# Altium integrated library Capacitor - Aluminium Polymer.IntLib: 273 symbols (part 1 of 4)
Pins are listed as number, name and electrical type; pins without a type are passive.

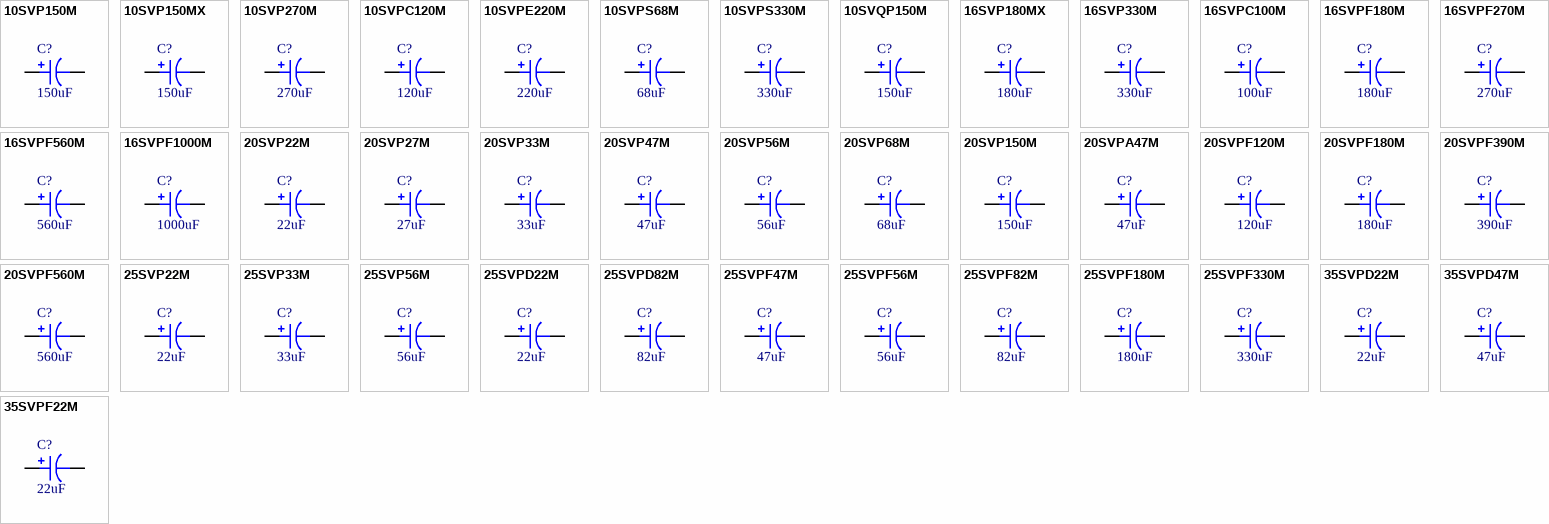
[diagram p0: symbols 10SVP150M to 35SVPF22M]

## 10SVP150M
designator C?, comment 150uF
CAP POLYMER 150UF 20% 10V SMD; Part Number: 10SVP150M; Manufacturer: Panasonic Electronic Components; TemperatureRange: -55C ~ 105C; Ripple Current: 3.02A; Lifetime @ Temp: 2000 Hrs @ 105C; Value: 150uF; PartId: 7668; Supplier 1: Digi-Key; Supplier Part Number 1: P16429TR-ND; ComponentLink1Description: Datasheet; ComponentLink1URL: http://industrial.panasonic.com/www-cgi/jvcr13pz.cgi?E+CI+4+AAB8008+10SVP150M+8+WW; ComponentLink2Description: Digi-Key listing; ComponentLink2URL: http://digikey.com/product-detail/en/10SVP150M/P16429TR-ND/4204761; Tolerance: 20%; Voltage: 10V; Price: 0.9215; Type: -; Device Package: Radial, Can - SMD; Impedance: -
footprint CAP ALUM 10.3MM
pins: 1, 2

## 10SVP150MX
designator C?, comment 150uF
CAP POLYMER 150UF 20% 10V SMD; Part Number: 10SVP150MX; Manufacturer: Panasonic Electronic Components; TemperatureRange: -55C ~ 105C; Ripple Current: 2.56A; Lifetime @ Temp: 2000 Hrs @ 105C; Value: 150uF; PartId: 7566; Supplier 1: Digi-Key; Supplier Part Number 1: P16430TR-ND; ComponentLink1Description: Datasheet; ComponentLink1URL: http://industrial.panasonic.com/www-cgi/jvcr13pz.cgi?E+CI+4+AAB8008+10SVP150MX+8+WW; ComponentLink2Description: Digi-Key listing; ComponentLink2URL: http://digikey.com/product-detail/en/10SVP150MX/P16430TR-ND/4204762; Tolerance: 20%; Voltage: 10V; Price: 0.7057; Type: -; Device Package: Radial, Can - SMD; Impedance: -
footprint CAP ALUM 8.3MM
pins: 1, 2

## 10SVP270M
designator C?, comment 270uF
CAP POLYMER 270UF 20% 10V SMD; Part Number: 10SVP270M; Manufacturer: Panasonic Electronic Components; TemperatureRange: -55C ~ 105C; Ripple Current: 3.7A; Lifetime @ Temp: 2000 Hrs @ 105C; Value: 270uF; PartId: 7669; Supplier 1: Digi-Key; Supplier Part Number 1: P16432TR-ND; ComponentLink1Description: Datasheet; ComponentLink1URL: http://industrial.panasonic.com/www-cgi/jvcr13pz.cgi?E+CI+4+AAB8008+10SVP270M+8+WW; ComponentLink2Description: Digi-Key listing; ComponentLink2URL: http://digikey.com/product-detail/en/10SVP270M/P16432TR-ND/4204764; Tolerance: 20%; Voltage: 10V; Price: 0.9322; Type: -; Device Package: Radial, Can - SMD; Impedance: -
footprint CAP ALUM 10.3MM
pins: 1, 2

## 10SVPC120M
designator C?, comment 120uF
CAP POLYMER 120UF 20% 10V SMD; Part Number: 10SVPC120M; Manufacturer: Panasonic Electronic Components; TemperatureRange: -55C ~ 105C; Ripple Current: 2.32A; Lifetime @ Temp: 2000 Hrs @ 105C; Value: 120uF; PartId: 7485; Supplier 1: Digi-Key; Supplier Part Number 1: P16440TR-ND; ComponentLink1Description: Datasheet; ComponentLink1URL: http://industrial.panasonic.com/www-cgi/jvcr13pz.cgi?E+CI+4+AAB8004+10SVPC120M+8+WW; ComponentLink2Description: Digi-Key listing; ComponentLink2URL: http://digikey.com/product-detail/en/10SVPC120M/P16440TR-ND/4204772; Tolerance: 20%; Voltage: 10V; Price: 0.4169; Type: -; Device Package: Radial, Can - SMD; Impedance: -
footprint CAP ALUM 6.6MM
pins: 1, 2

## 10SVPE220M
designator C?, comment 220uF
CAP POLYMER 220UF 20% 10V SMD; Part Number: 10SVPE220M; Manufacturer: Panasonic Electronic Components; TemperatureRange: -55C ~ 105C; Ripple Current: 2.7A; Lifetime @ Temp: 2000 Hrs @ 105C; Value: 220uF; PartId: 7554; Supplier 1: Digi-Key; Supplier Part Number 1: P16445TR-ND; ComponentLink1Description: Datasheet; ComponentLink1URL: http://industrial.panasonic.com/www-cgi/jvcr13pz.cgi?E+CI+4+AAB8002+10SVPE220M+8+WW; ComponentLink2Description: Digi-Key listing; ComponentLink2URL: http://digikey.com/product-detail/en/10SVPE220M/P16445TR-ND/4204777; Tolerance: 20%; Voltage: 10V; Price: 1.1084; Type: -; Device Package: Radial, Can - SMD; Impedance: -
footprint CAP ALUM 6.6MM
pins: 1, 2

## 10SVPS68M
designator C?, comment 68uF
CAP POLYMER 68UF 20% 10V SMD; Part Number: 10SVPS68M; Manufacturer: Panasonic Electronic Components; TemperatureRange: -55C ~ 105C; Type: General Purpose; Ripple Current: 2.2A; Lifetime @ Temp: 5000 Hrs @ 105C; Value: 68uF; PartId: 7530; Supplier 1: Digi-Key; Supplier Part Number 1: PCE5083TR-ND; ComponentLink1Description: Datasheet; ComponentLink1URL: http://media.digikey.com/pdf/Data%20Sheets/Panasonic%20Capacitors%20PDFs/SVPS_Series.pdf; ComponentLink2Description: Digi-Key listing; ComponentLink2URL: http://digikey.com/product-detail/en/10SVPS68M/PCE5083TR-ND/4833029; Tolerance: 20%; Voltage: 10V; Price: 0.7195; Device Package: Radial, Can - SMD; Impedance: -
footprint CAP ALUM 6.6MM
pins: 1, 2

## 10SVPS330M
designator C?, comment 330uF
CAP POLYMER 330UF 20% 10V SMD; Part Number: 10SVPS330M; Manufacturer: Panasonic Electronic Components; TemperatureRange: -55C ~ 105C; Type: General Purpose; Ripple Current: 3.77A; Lifetime @ Temp: 5000 Hrs @ 105C; Value: 330uF; PartId: 7673; Supplier 1: Digi-Key; Supplier Part Number 1: PCE5082TR-ND; ComponentLink1Description: Datasheet; ComponentLink1URL: http://media.digikey.com/pdf/Data%20Sheets/Panasonic%20Capacitors%20PDFs/SVPS_Series.pdf; ComponentLink2Description: Digi-Key listing; ComponentLink2URL: http://digikey.com/product-detail/en/10SVPS330M/PCE5082TR-ND/4833028; Tolerance: 20%; Voltage: 10V; Price: 0.9786; Device Package: Radial, Can - SMD; Impedance: -
footprint CAP ALUM 10.3MM
pins: 1, 2

## 10SVQP150M
designator C?, comment 150uF
CAP POLYMER 150UF 20% 10V SMD; Part Number: 10SVQP150M; Manufacturer: Panasonic Electronic Components; TemperatureRange: -55C ~ 125C; Type: General Purpose; Ripple Current: 2.56A; Lifetime @ Temp: 1000 Hrs @ 125C; Value: 150uF; PartId: 7600; Supplier 1: Digi-Key; Supplier Part Number 1: PCE5088TR-ND; ComponentLink1Description: Datasheet; ComponentLink1URL: http://media.digikey.com/pdf/Data%20Sheets/Panasonic%20Capacitors%20PDFs/SVQP_Series.pdf; ComponentLink2Description: Digi-Key listing; ComponentLink2URL: http://digikey.com/product-detail/en/10SVQP150M/PCE5088TR-ND/4833034; Tolerance: 20%; Voltage: 10V; Price: 0.9788; Device Package: Radial, Can - SMD; Impedance: -
footprint CAP ALUM 8.3MM
pins: 1, 2

## 16SVP180MX
designator C?, comment 180uF
CAP POLYMER 180UF 20% 16V SMD; Part Number: 16SVP180MX; Manufacturer: Panasonic Electronic Components; TemperatureRange: -55C ~ 105C; Ripple Current: 3.02A; Lifetime @ Temp: 2000 Hrs @ 105C; Value: 180uF; PartId: 7654; Supplier 1: Digi-Key; Supplier Part Number 1: P16461TR-ND; ComponentLink1Description: Datasheet; ComponentLink1URL: http://industrial.panasonic.com/www-cgi/jvcr13pz.cgi?E+CI+4+AAB8008+16SVP180MX+8+WW; ComponentLink2Description: Digi-Key listing; ComponentLink2URL: http://digikey.com/product-detail/en/16SVP180MX/P16461TR-ND/4204793; Tolerance: 20%; Voltage: 16V; Price: 0.4938; Type: -; Device Package: Radial, Can - SMD; Impedance: -
footprint CAP ALUM 10.3MM
pins: 1, 2

## 16SVP330M
designator C?, comment 330uF
CAP POLYMER 330UF 20% 16V SMD; Part Number: 16SVP330M; Manufacturer: Panasonic Electronic Components; TemperatureRange: -55C ~ 105C; Ripple Current: 4.72A; Lifetime @ Temp: 2000 Hrs @ 105C; Value: 330uF; PartId: 7659; Supplier 1: Digi-Key; Supplier Part Number 1: P16463TR-ND; ComponentLink1Description: Datasheet; ComponentLink1URL: http://industrial.panasonic.com/www-cgi/jvcr13pz.cgi?E+CI+4+AAB8008+16SVP330M+8+WW; ComponentLink2Description: Digi-Key listing; ComponentLink2URL: http://digikey.com/product-detail/en/16SVP330M/P16463TR-ND/4204795; Tolerance: 20%; Voltage: 16V; Price: 0.7395; Type: -; Device Package: Radial, Can - SMD; Impedance: -
footprint CAP ALUM 10.3MM
pins: 1, 2

## 16SVPC100M
designator C?, comment 100uF
CAP POLYMER 100UF 20% 16V SMD; Part Number: 16SVPC100M; Manufacturer: Panasonic Electronic Components; TemperatureRange: -55C ~ 105C; Ripple Current: 2.49A; Lifetime @ Temp: 2000 Hrs @ 105C; Value: 100uF; PartId: 7484; Supplier 1: Digi-Key; Supplier Part Number 1: P16468TR-ND; ComponentLink1Description: Datasheet; ComponentLink1URL: http://industrial.panasonic.com/www-cgi/jvcr13pz.cgi?E+CI+4+AAB8004+16SVPC100M+8+WW; ComponentLink2Description: Digi-Key listing; ComponentLink2URL: http://digikey.com/product-detail/en/16SVPC100M/P16468TR-ND/4204800; Tolerance: 20%; Voltage: 16V; Price: 0.4169; Type: -; Device Package: Radial, Can - SMD; Impedance: -
footprint CAP ALUM 6.6MM
pins: 1, 2

## 16SVPF180M
designator C?, comment 180uF
CAP POLYMER 180UF 20% 16V SMD; Part Number: 16SVPF180M; Manufacturer: Panasonic Electronic Components; TemperatureRange: -55C ~ 105C; Ripple Current: 3.3A; Lifetime @ Temp: 5000 Hrs @ 105C; Value: 180uF; PartId: 7515; Supplier 1: Digi-Key; Supplier Part Number 1: P16479TR-ND; ComponentLink1Description: Datasheet; ComponentLink1URL: http://industrial.panasonic.com/www-cgi/jvcr13pz.cgi?E+CI+4+AAB8001+16SVPF180M+8+WW; ComponentLink2Description: Digi-Key listing; ComponentLink2URL: http://digikey.com/product-detail/en/16SVPF180M/P16479TR-ND/4204811; Tolerance: 20%; Voltage: 16V; Price: 0.6186; Type: -; Device Package: Radial, Can - SMD; Impedance: -
footprint CAP ALUM 6.6MM
pins: 1, 2

## 16SVPF270M
designator C?, comment 270uF
CAP POLYMER 270UF 20% 16V SMD; Part Number: 16SVPF270M; Manufacturer: Panasonic Electronic Components; TemperatureRange: -55C ~ 105C; Ripple Current: 3.3A; Lifetime @ Temp: 5000 Hrs @ 105C; Value: 270uF; PartId: 7571; Supplier 1: Digi-Key; Supplier Part Number 1: P16480TR-ND; ComponentLink1Description: Datasheet; ComponentLink1URL: http://industrial.panasonic.com/www-cgi/jvcr13pz.cgi?E+CI+4+AAB8001+16SVPF270M+8+WW; ComponentLink2Description: Digi-Key listing; ComponentLink2URL: http://digikey.com/product-detail/en/16SVPF270M/P16480TR-ND/4204812; Tolerance: 20%; Voltage: 16V; Price: 0.7212; Type: -; Device Package: Radial, Can - SMD; Impedance: -
footprint CAP ALUM 8.3MM
pins: 1, 2

## 16SVPF560M
designator C?, comment 560uF
CAP POLYMER 560UF 20% 16V SMD; Part Number: 16SVPF560M; Manufacturer: Panasonic Electronic Components; TemperatureRange: -55C ~ 105C; Ripple Current: 4.95A; Lifetime @ Temp: 5000 Hrs @ 105C; Value: 560uF; PartId: 7618; Supplier 1: Digi-Key; Supplier Part Number 1: P16481TR-ND; ComponentLink1Description: Datasheet; ComponentLink1URL: http://industrial.panasonic.com/www-cgi/jvcr13pz.cgi?E+CI+4+AAB8001+16SVPF560M+8+WW; ComponentLink2Description: Digi-Key listing; ComponentLink2URL: http://digikey.com/product-detail/en/16SVPF560M/P16481TR-ND/4204813; Tolerance: 20%; Voltage: 16V; Price: 1.1915; Type: -; Device Package: Radial, Can - SMD; Impedance: -
footprint CAP ALUM 8.3MM
pins: 1, 2

## 16SVPF1000M
designator C?, comment 1000uF
CAP POLYMER 1000UF 20% 16V SMD; Part Number: 16SVPF1000M; Manufacturer: Panasonic Electronic Components; TemperatureRange: -55C ~ 105C; Ripple Current: 5.4A; Lifetime @ Temp: 5000 Hrs @ 105C; Value: 1000uF; PartId: 7704; Supplier 1: Digi-Key; Supplier Part Number 1: P16478TR-ND; ComponentLink1Description: Datasheet; ComponentLink1URL: http://industrial.panasonic.com/www-cgi/jvcr13pz.cgi?E+CI+4+AAB8001+16SVPF1000M+8+WW; ComponentLink2Description: Digi-Key listing; ComponentLink2URL: http://digikey.com/product-detail/en/16SVPF1000M/P16478TR-ND/4204810; Tolerance: 20%; Voltage: 16V; Price: 1.3876; Type: -; Device Package: Radial, Can - SMD; Impedance: -
footprint CAP ALUM 10.3MM
pins: 1, 2

## 20SVP22M
designator C?, comment 22uF
CAP POLYMER 22UF 20% 20V SMD; Part Number: 20SVP22M; Manufacturer: Panasonic Electronic Components; TemperatureRange: -55C ~ 105C; Ripple Current: 1.45A; Lifetime @ Temp: 2000 Hrs @ 105C; Value: 22uF; PartId: 7510; Supplier 1: Digi-Key; Supplier Part Number 1: P16492TR-ND; ComponentLink1Description: Datasheet; ComponentLink1URL: http://industrial.panasonic.com/www-cgi/jvcr13pz.cgi?E+CI+4+AAB8008+20SVP22M+8+WW; ComponentLink2Description: Digi-Key listing; ComponentLink2URL: http://digikey.com/product-detail/en/20SVP22M/P16492TR-ND/4204824; Tolerance: 20%; Voltage: 20V; Price: 0.605; Type: -; Device Package: Radial, Can - SMD; Impedance: -
footprint CAP ALUM 6.6MM
pins: 1, 2

## 20SVP27M
designator C?, comment 27uF
CAP POLYMER 27UF 20% 20V SMD; Part Number: 20SVP27M; Manufacturer: Panasonic Electronic Components; TemperatureRange: -55C ~ 105C; Ripple Current: 1.45A; Lifetime @ Temp: 2000 Hrs @ 105C; Value: 27uF; PartId: 7511; Supplier 1: Digi-Key; Supplier Part Number 1: P16493TR-ND; ComponentLink1Description: Datasheet; ComponentLink1URL: http://industrial.panasonic.com/www-cgi/jvcr13pz.cgi?E+CI+4+AAB8008+20SVP27M+8+WW; ComponentLink2Description: Digi-Key listing; ComponentLink2URL: http://digikey.com/product-detail/en/20SVP27M/P16493TR-ND/4204825; Tolerance: 20%; Voltage: 20V; Price: 0.605; Type: -; Device Package: Radial, Can - SMD; Impedance: -
footprint CAP ALUM 6.6MM
pins: 1, 2

## 20SVP33M
designator C?, comment 33uF
CAP POLYMER 33UF 20% 20V SMD; Part Number: 20SVP33M; Manufacturer: Panasonic Electronic Components; TemperatureRange: -55C ~ 105C; Ripple Current: 1.89A; Lifetime @ Temp: 2000 Hrs @ 105C; Value: 33uF; PartId: 7567; Supplier 1: Digi-Key; Supplier Part Number 1: P16494TR-ND; ComponentLink1Description: Datasheet; ComponentLink1URL: http://industrial.panasonic.com/www-cgi/jvcr13pz.cgi?E+CI+4+AAB8008+20SVP33M+8+WW; ComponentLink2Description: Digi-Key listing; ComponentLink2URL: http://digikey.com/product-detail/en/20SVP33M/P16494TR-ND/4204826; Tolerance: 20%; Voltage: 20V; Price: 0.7057; Type: -; Device Package: Radial, Can - SMD; Impedance: -
footprint CAP ALUM 8.3MM
pins: 1, 2

## 20SVP47M
designator C?, comment 47uF
CAP POLYMER 47UF 20% 20V SMD; Part Number: 20SVP47M; Manufacturer: Panasonic Electronic Components; TemperatureRange: -55C ~ 105C; Ripple Current: 1.89A; Lifetime @ Temp: 2000 Hrs @ 105C; Value: 47uF; PartId: 7565; Supplier 1: Digi-Key; Supplier Part Number 1: P16495TR-ND; ComponentLink1Description: Datasheet; ComponentLink1URL: http://industrial.panasonic.com/www-cgi/jvcr13pz.cgi?E+CI+4+AAB8008+20SVP47M+8+WW; ComponentLink2Description: Digi-Key listing; ComponentLink2URL: http://digikey.com/product-detail/en/20SVP47M/P16495TR-ND/4204827; Tolerance: 20%; Voltage: 20V; Price: 0.7057; Type: -; Device Package: Radial, Can - SMD; Impedance: -
footprint CAP ALUM 8.3MM
pins: 1, 2

## 20SVP56M
designator C?, comment 56uF
CAP POLYMER 56UF 20% 20V SMD; Part Number: 20SVP56M; Manufacturer: Panasonic Electronic Components; TemperatureRange: -55C ~ 105C; Ripple Current: 2.4A; Lifetime @ Temp: 2000 Hrs @ 105C; Value: 56uF; PartId: 7671; Supplier 1: Digi-Key; Supplier Part Number 1: P16496TR-ND; ComponentLink1Description: Datasheet; ComponentLink1URL: http://industrial.panasonic.com/www-cgi/jvcr13pz.cgi?E+CI+4+AAB8008+20SVP56M+8+WW; ComponentLink2Description: Digi-Key listing; ComponentLink2URL: http://digikey.com/product-detail/en/20SVP56M/P16496TR-ND/4204828; Tolerance: 20%; Voltage: 20V; Price: 0.9322; Type: -; Device Package: Radial, Can - SMD; Impedance: -
footprint CAP ALUM 10.3MM
pins: 1, 2

## 20SVP68M
designator C?, comment 68uF
CAP POLYMER 68UF 20% 20V SMD; Part Number: 20SVP68M; Manufacturer: Panasonic Electronic Components; TemperatureRange: -55C ~ 105C; Ripple Current: 2.4A; Lifetime @ Temp: 2000 Hrs @ 105C; Value: 68uF; PartId: 7667; Supplier 1: Digi-Key; Supplier Part Number 1: P16497TR-ND; ComponentLink1Description: Datasheet; ComponentLink1URL: http://industrial.panasonic.com/www-cgi/jvcr13pz.cgi?E+CI+4+AAB8008+20SVP68M+8+WW; ComponentLink2Description: Digi-Key listing; ComponentLink2URL: http://digikey.com/product-detail/en/20SVP68M/P16497TR-ND/4204829; Tolerance: 20%; Voltage: 20V; Price: 0.9139; Type: -; Device Package: Radial, Can - SMD; Impedance: -
footprint CAP ALUM 10.3MM
pins: 1, 2

## 20SVP150M
designator C?, comment 150uF
CAP POLYMER 150UF 20% 20V SMD; Part Number: 20SVP150M; Manufacturer: Panasonic Electronic Components; TemperatureRange: -55C ~ 105C; Ripple Current: 4.32A; Lifetime @ Temp: 2000 Hrs @ 105C; Value: 150uF; PartId: 7701; Supplier 1: Digi-Key; Supplier Part Number 1: P16491TR-ND; ComponentLink1Description: Datasheet; ComponentLink1URL: http://industrial.panasonic.com/www-cgi/jvcr13pz.cgi?E+CI+4+AAB8008+20SVP150M+8+WW; ComponentLink2Description: Digi-Key listing; ComponentLink2URL: http://digikey.com/product-detail/en/20SVP150M/P16491TR-ND/4204823; Tolerance: 20%; Voltage: 20V; Price: 1.3578; Type: -; Device Package: Radial, Can - SMD; Impedance: -
footprint CAP ALUM 10.3MM
pins: 1, 2

## 20SVPA47M
designator C?, comment 47uF
CAP POLYMER 47UF 20% 20V SMD; Part Number: 20SVPA47M; Manufacturer: Panasonic Electronic Components; TemperatureRange: -55C ~ 105C; Type: General Purpose; Ripple Current: 2.63A; Lifetime @ Temp: 2000 Hrs @ 105C; Value: 47uF; PartId: 7579; Supplier 1: Digi-Key; Supplier Part Number 1: PCE5069TR-ND; ComponentLink1Description: Datasheet; ComponentLink1URL: http://media.digikey.com/pdf/Data%20Sheets/Panasonic%20Capacitors%20PDFs/SVPA_Series.pdf; ComponentLink2Description: Digi-Key listing; ComponentLink2URL: http://digikey.com/product-detail/en/20SVPA47M/PCE5069TR-ND/4833015; Tolerance: 20%; Voltage: 20V; Price: 0.8346; Device Package: Radial, Can - SMD; Impedance: -
footprint CAP ALUM 8.3MM
pins: 1, 2

## 20SVPF120M
designator C?, comment 120uF
CAP POLYMER 120UF 20% 20V SMD; Part Number: 20SVPF120M; Manufacturer: Panasonic Electronic Components; TemperatureRange: -55C ~ 105C; Ripple Current: 3.2A; Lifetime @ Temp: 5000 Hrs @ 105C; Value: 120uF; PartId: 7517; Supplier 1: Digi-Key; Supplier Part Number 1: P16498TR-ND; ComponentLink1Description: Datasheet; ComponentLink1URL: http://industrial.panasonic.com/www-cgi/jvcr13pz.cgi?E+CI+4+AAB8001+20SVPF120M+8+WW; ComponentLink2Description: Digi-Key listing; ComponentLink2URL: http://digikey.com/product-detail/en/20SVPF120M/P16498TR-ND/4204830; Tolerance: 20%; Voltage: 20V; Price: 0.6186; Type: -; Device Package: Radial, Can - SMD; Impedance: -
footprint CAP ALUM 6.6MM
pins: 1, 2

## 20SVPF180M
designator C?, comment 180uF
CAP POLYMER 180UF 20% 20V SMD; Part Number: 20SVPF180M; Manufacturer: Panasonic Electronic Components; TemperatureRange: -55C ~ 105C; Ripple Current: 3.2A; Lifetime @ Temp: 5000 Hrs @ 105C; Value: 180uF; PartId: 7570; Supplier 1: Digi-Key; Supplier Part Number 1: P16499TR-ND; ComponentLink1Description: Datasheet; ComponentLink1URL: http://industrial.panasonic.com/www-cgi/jvcr13pz.cgi?E+CI+4+AAB8001+20SVPF180M+8+WW; ComponentLink2Description: Digi-Key listing; ComponentLink2URL: http://digikey.com/product-detail/en/20SVPF180M/P16499TR-ND/4204831; Tolerance: 20%; Voltage: 20V; Price: 0.7212; Type: -; Device Package: Radial, Can - SMD; Impedance: -
footprint CAP ALUM 8.3MM
pins: 1, 2

## 20SVPF390M
designator C?, comment 390uF
CAP POLYMER 390UF 20% 20V SMD; Part Number: 20SVPF390M; Manufacturer: Panasonic Electronic Components; TemperatureRange: -55C ~ 105C; Ripple Current: 4.95A; Lifetime @ Temp: 5000 Hrs @ 105C; Value: 390uF; PartId: 7619; Supplier 1: Digi-Key; Supplier Part Number 1: P16500TR-ND; ComponentLink1Description: Datasheet; ComponentLink1URL: http://industrial.panasonic.com/www-cgi/jvcr13pz.cgi?E+CI+4+AAB8001+20SVPF390M+8+WW; ComponentLink2Description: Digi-Key listing; ComponentLink2URL: http://digikey.com/product-detail/en/20SVPF390M/P16500TR-ND/4204832; Tolerance: 20%; Voltage: 20V; Price: 1.2023; Type: -; Device Package: Radial, Can - SMD; Impedance: -
footprint CAP ALUM 8.3MM
pins: 1, 2

## 20SVPF560M
designator C?, comment 560uF
CAP POLYMER 560UF 20% 20V SMD; Part Number: 20SVPF560M; Manufacturer: Panasonic Electronic Components; TemperatureRange: -55C ~ 105C; Ripple Current: 5.4A; Lifetime @ Temp: 5000 Hrs @ 105C; Value: 560uF; PartId: 7697; Supplier 1: Digi-Key; Supplier Part Number 1: P16501TR-ND; ComponentLink1Description: Datasheet; ComponentLink1URL: http://industrial.panasonic.com/www-cgi/jvcr13pz.cgi?E+CI+4+AAB8001+20SVPF560M+8+WW; ComponentLink2Description: Digi-Key listing; ComponentLink2URL: http://digikey.com/product-detail/en/20SVPF560M/P16501TR-ND/4204833; Tolerance: 20%; Voltage: 20V; Price: 1.2989; Type: -; Device Package: Radial, Can - SMD; Impedance: -
footprint CAP ALUM 10.3MM
pins: 1, 2

## 25SVP22M
designator C?, comment 22uF
CAP POLYMER 22UF 20% 25V SMD; Part Number: 25SVP22M; Manufacturer: Panasonic Electronic Components; TemperatureRange: -55C ~ 105C; Ripple Current: 2A; Lifetime @ Temp: 2000 Hrs @ 105C; Value: 22uF; PartId: 7670; Supplier 1: Digi-Key; Supplier Part Number 1: P16506TR-ND; ComponentLink1Description: Datasheet; ComponentLink1URL: http://industrial.panasonic.com/www-cgi/jvcr13pz.cgi?E+CI+4+AAB8008+25SVP22M+8+WW; ComponentLink2Description: Digi-Key listing; ComponentLink2URL: http://digikey.com/product-detail/en/25SVP22M/P16506TR-ND/4204838; Tolerance: 20%; Voltage: 25V; Price: 0.9322; Type: -; Device Package: Radial, Can - SMD; Impedance: -
footprint CAP ALUM 10.3MM
pins: 1, 2

## 25SVP33M
designator C?, comment 33uF
CAP POLYMER 33UF 20% 25V SMD; Part Number: 25SVP33M; Manufacturer: Panasonic Electronic Components; TemperatureRange: -55C ~ 105C; Ripple Current: 2.98A; Lifetime @ Temp: 2000 Hrs @ 105C; Value: 33uF; PartId: 7621; Supplier 1: Digi-Key; Supplier Part Number 1: P16507TR-ND; ComponentLink1Description: Datasheet; ComponentLink1URL: http://industrial.panasonic.com/www-cgi/jvcr13pz.cgi?E+CI+4+AAB8008+25SVP33M+8+WW; ComponentLink2Description: Digi-Key listing; ComponentLink2URL: http://digikey.com/product-detail/en/25SVP33M/P16507TR-ND/4204839; Tolerance: 20%; Voltage: 25V; Price: 1.3443; Type: -; Device Package: Radial, Can - SMD; Impedance: -
footprint CAP ALUM 8.3MM
pins: 1, 2

## 25SVP56M
designator C?, comment 56uF
CAP POLYMER 56UF 20% 25V SMD; Part Number: 25SVP56M; Manufacturer: Panasonic Electronic Components; TemperatureRange: -55C ~ 105C; Ripple Current: 3.8A; Lifetime @ Temp: 2000 Hrs @ 105C; Value: 56uF; PartId: 7702; Supplier 1: Digi-Key; Supplier Part Number 1: P16508TR-ND; ComponentLink1Description: Datasheet; ComponentLink1URL: http://industrial.panasonic.com/www-cgi/jvcr13pz.cgi?E+CI+4+AAB8008+25SVP56M+8+WW; ComponentLink2Description: Digi-Key listing; ComponentLink2URL: http://digikey.com/product-detail/en/25SVP56M/P16508TR-ND/4204840; Tolerance: 20%; Voltage: 25V; Price: 1.3578; Type: -; Device Package: Radial, Can - SMD; Impedance: -
footprint CAP ALUM 10.3MM
pins: 1, 2

## 25SVPD22M
designator C?, comment 22uF
CAP POLYMER 22UF 20% 25V SMD; Part Number: 25SVPD22M; Manufacturer: Panasonic Electronic Components; TemperatureRange: -55C ~ 125C; Type: General Purpose; Ripple Current: 1.835A; Lifetime @ Temp: 2000 Hrs @ 125C; Value: 22uF; PartId: 7583; Supplier 1: Digi-Key; Supplier Part Number 1: PCE5076TR-ND; ComponentLink1Description: Datasheet; ComponentLink1URL: http://media.digikey.com/pdf/Data%20Sheets/Panasonic%20Capacitors%20PDFs/SVPD_Series.pdf; ComponentLink2Description: Digi-Key listing; ComponentLink2URL: http://digikey.com/product-detail/en/25SVPD22M/PCE5076TR-ND/4833022; Tolerance: 20%; Voltage: 25V; Price: 0.8635; Device Package: Radial, Can - SMD; Impedance: -
footprint CAP ALUM 8.3MM
pins: 1, 2

## 25SVPD82M
designator C?, comment 82uF
CAP POLYMER 82UF 20% 25V SMD; Part Number: 25SVPD82M; Manufacturer: Panasonic Electronic Components; TemperatureRange: -55C ~ 125C; Type: General Purpose; Ripple Current: 3.8A; Lifetime @ Temp: 2000 Hrs @ 125C; Value: 82uF; PartId: 7713; Supplier 1: Digi-Key; Supplier Part Number 1: PCE5073TR-ND; ComponentLink1Description: Datasheet; ComponentLink1URL: http://media.digikey.com/pdf/Data%20Sheets/Panasonic%20Capacitors%20PDFs/SVPD_Series.pdf; ComponentLink2Description: Digi-Key listing; ComponentLink2URL: http://digikey.com/product-detail/en/25SVPD82M/PCE5073TR-ND/4833019; Tolerance: 20%; Voltage: 25V; Price: 1.5882; Device Package: Radial, Can - SMD; Impedance: -
footprint CAP ALUM 10.3MM
pins: 1, 2

## 25SVPF47M
designator C?, comment 47uF
CAP POLYMER 47UF 20% 25V SMD; Part Number: 25SVPF47M; Manufacturer: Panasonic Electronic Components; TemperatureRange: -55C ~ 105C; Ripple Current: 2.8A; Lifetime @ Temp: 5000 Hrs @ 105C; Value: 47uF; PartId: 7518; Supplier 1: Digi-Key; Supplier Part Number 1: P16513TR-ND; ComponentLink1Description: Datasheet; ComponentLink1URL: http://industrial.panasonic.com/www-cgi/jvcr13pz.cgi?E+CI+4+AAB8001+25SVPF47M+8+WW; ComponentLink2Description: Digi-Key listing; ComponentLink2URL: http://digikey.com/product-detail/en/25SVPF47M/P16513TR-ND/4204845; Tolerance: 20%; Voltage: 25V; Price: 0.6186; Type: -; Device Package: Radial, Can - SMD; Impedance: -
footprint CAP ALUM 6.6MM
pins: 1, 2

## 25SVPF56M
designator C?, comment 56uF
CAP POLYMER 56UF 20% 25V SMD; Part Number: 25SVPF56M; Manufacturer: Panasonic Electronic Components; TemperatureRange: -55C ~ 105C; Ripple Current: 2.8A; Lifetime @ Temp: 5000 Hrs @ 105C; Value: 56uF; PartId: 7519; Supplier 1: Digi-Key; Supplier Part Number 1: P16514TR-ND; ComponentLink1Description: Datasheet; ComponentLink1URL: http://industrial.panasonic.com/www-cgi/jvcr13pz.cgi?E+CI+4+AAB8001+25SVPF56M+8+WW; ComponentLink2Description: Digi-Key listing; ComponentLink2URL: http://digikey.com/product-detail/en/25SVPF56M/P16514TR-ND/4204846; Tolerance: 20%; Voltage: 25V; Price: 0.6186; Type: -; Device Package: Radial, Can - SMD; Impedance: -
footprint CAP ALUM 6.6MM
pins: 1, 2

## 25SVPF82M
designator C?, comment 82uF
CAP POLYMER 82UF 20% 25V SMD; Part Number: 25SVPF82M; Manufacturer: Panasonic Electronic Components; TemperatureRange: -55C ~ 105C; Ripple Current: 3A; Lifetime @ Temp: 5000 Hrs @ 105C; Value: 82uF; PartId: 7569; Supplier 1: Digi-Key; Supplier Part Number 1: P16515TR-ND; ComponentLink1Description: Datasheet; ComponentLink1URL: http://industrial.panasonic.com/www-cgi/jvcr13pz.cgi?E+CI+4+AAB8001+25SVPF82M+8+WW; ComponentLink2Description: Digi-Key listing; ComponentLink2URL: http://digikey.com/product-detail/en/25SVPF82M/P16515TR-ND/4204847; Tolerance: 20%; Voltage: 25V; Price: 0.7212; Type: -; Device Package: Radial, Can - SMD; Impedance: -
footprint CAP ALUM 8.3MM
pins: 1, 2

## 25SVPF180M
designator C?, comment 180uF
CAP POLYMER 180UF 20% 25V SMD; Part Number: 25SVPF180M; Manufacturer: Panasonic Electronic Components; TemperatureRange: -55C ~ 105C; Ripple Current: 4.65A; Lifetime @ Temp: 5000 Hrs @ 105C; Value: 180uF; PartId: 7617; Supplier 1: Digi-Key; Supplier Part Number 1: P16510TR-ND; ComponentLink1Description: Datasheet; ComponentLink1URL: http://industrial.panasonic.com/www-cgi/jvcr13pz.cgi?E+CI+4+AAB8001+25SVPF180M+8+WW; ComponentLink2Description: Digi-Key listing; ComponentLink2URL: http://digikey.com/product-detail/en/25SVPF180M/P16510TR-ND/4204842; Tolerance: 20%; Voltage: 25V; Price: 1.1915; Type: -; Device Package: Radial, Can - SMD; Impedance: -
footprint CAP ALUM 8.3MM
pins: 1, 2

## 25SVPF330M
designator C?, comment 330uF
CAP POLYMER 330UF 20% 25V SMD; Part Number: 25SVPF330M; Manufacturer: Panasonic Electronic Components; TemperatureRange: -55C ~ 105C; Ripple Current: 5A; Lifetime @ Temp: 5000 Hrs @ 105C; Value: 330uF; PartId: 7696; Supplier 1: Digi-Key; Supplier Part Number 1: P16512TR-ND; ComponentLink1Description: Datasheet; ComponentLink1URL: http://industrial.panasonic.com/www-cgi/jvcr13pz.cgi?E+CI+4+AAB8001+25SVPF330M+8+WW; ComponentLink2Description: Digi-Key listing; ComponentLink2URL: http://digikey.com/product-detail/en/25SVPF330M/P16512TR-ND/4204844; Tolerance: 20%; Voltage: 25V; Price: 1.2989; Type: -; Device Package: Radial, Can - SMD; Impedance: -
footprint CAP ALUM 10.3MM
pins: 1, 2

## 35SVPD22M
designator C?, comment 22uF
CAP POLYMER 22UF 20% 35V SMD; Part Number: 35SVPD22M; Manufacturer: Panasonic Electronic Components; TemperatureRange: -55C ~ 125C; Type: General Purpose; Ripple Current: 2.3A; Lifetime @ Temp: 2000 Hrs @ 125C; Value: 22uF; PartId: 7624; Supplier 1: Digi-Key; Supplier Part Number 1: PCE5079TR-ND; ComponentLink1Description: Datasheet; ComponentLink1URL: http://media.digikey.com/pdf/Data%20Sheets/Panasonic%20Capacitors%20PDFs/SVPD_Series.pdf; ComponentLink2Description: Digi-Key listing; ComponentLink2URL: http://digikey.com/product-detail/en/35SVPD22M/PCE5079TR-ND/4833025; Tolerance: 20%; Voltage: 35V; Price: 1.3816; Device Package: Radial, Can - SMD; Impedance: -
footprint CAP ALUM 8.3MM
pins: 1, 2

## 35SVPD47M
designator C?, comment 47uF
CAP POLYMER 47UF 20% 35V SMD; Part Number: 35SVPD47M; Manufacturer: Panasonic Electronic Components; TemperatureRange: -55C ~ 125C; Type: General Purpose; Ripple Current: 3.65A; Lifetime @ Temp: 2000 Hrs @ 125C; Value: 47uF; PartId: 7714; Supplier 1: Digi-Key; Supplier Part Number 1: PCE5080TR-ND; ComponentLink1Description: Datasheet; ComponentLink1URL: http://media.digikey.com/pdf/Data%20Sheets/Panasonic%20Capacitors%20PDFs/SVPD_Series.pdf; ComponentLink2Description: Digi-Key listing; ComponentLink2URL: http://digikey.com/product-detail/en/35SVPD47M/PCE5080TR-ND/4833026; Tolerance: 20%; Voltage: 35V; Price: 1.5882; Device Package: Radial, Can - SMD; Impedance: -
footprint CAP ALUM 10.3MM
pins: 1, 2

## 35SVPF22M
designator C?, comment 22uF
CAP POLYMER 22UF 20% 35V SMD; Part Number: 35SVPF22M; Manufacturer: Panasonic Electronic Components; TemperatureRange: -55C ~ 105C; Ripple Current: 2.6A; Lifetime @ Temp: 5000 Hrs @ 105C; Value: 22uF; PartId: 7516; Supplier 1: Digi-Key; Supplier Part Number 1: P16560TR-ND; ComponentLink1Description: Datasheet; ComponentLink1URL: http://industrial.panasonic.com/www-cgi/jvcr13pz.cgi?E+CI+4+AAB8001+35SVPF22M+8+WW; ComponentLink2Description: Digi-Key listing; ComponentLink2URL: http://digikey.com/product-detail/en/35SVPF22M/P16560TR-ND/4204892; Tolerance: 20%; Voltage: 35V; Price: 0.6186; Type: -; Device Package: Radial, Can - SMD; Impedance: -
footprint CAP ALUM 6.6MM
pins: 1, 2

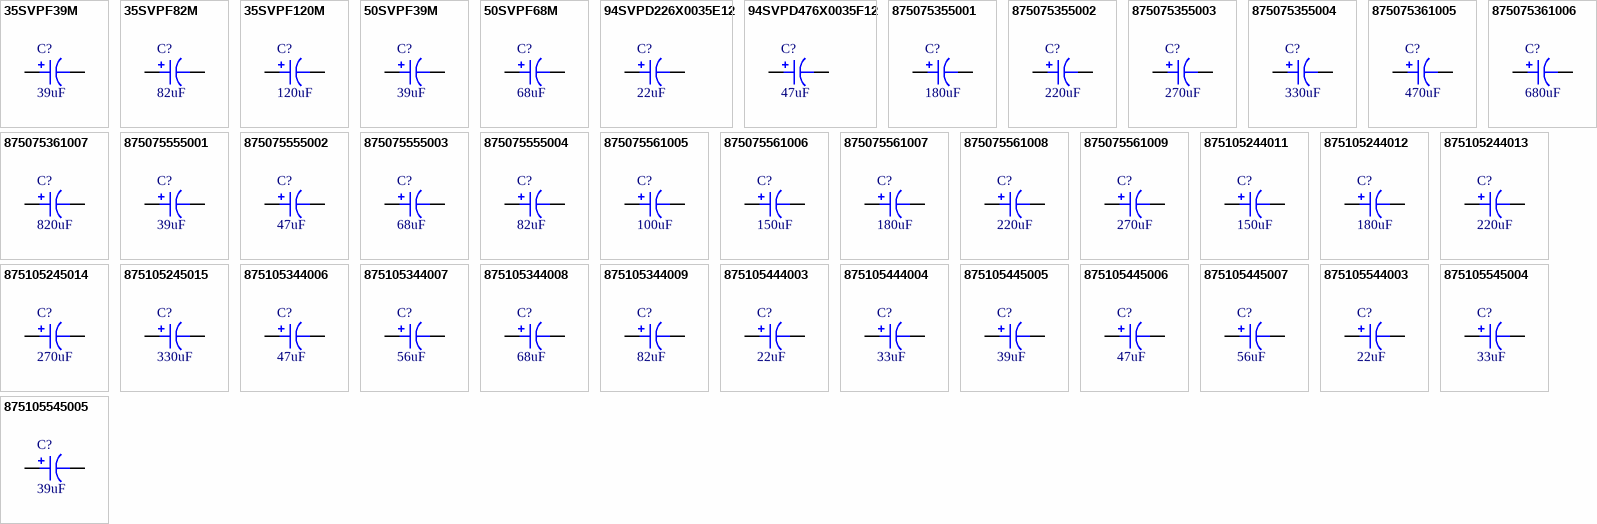
[diagram p1: symbols 35SVPF39M to 875105545005]

## 35SVPF39M
designator C?, comment 39uF
CAP POLYMER 39UF 20% 35V SMD; Part Number: 35SVPF39M; Manufacturer: Panasonic Electronic Components; TemperatureRange: -55C ~ 105C; Ripple Current: 2.8A; Lifetime @ Temp: 5000 Hrs @ 105C; Value: 39uF; PartId: 7572; Supplier 1: Digi-Key; Supplier Part Number 1: P16561TR-ND; ComponentLink1Description: Datasheet; ComponentLink1URL: http://industrial.panasonic.com/www-cgi/jvcr13pz.cgi?E+CI+4+AAB8001+35SVPF39M+8+WW; ComponentLink2Description: Digi-Key listing; ComponentLink2URL: http://digikey.com/product-detail/en/35SVPF39M/P16561TR-ND/4204893; Tolerance: 20%; Voltage: 35V; Price: 0.7212; Type: -; Device Package: Radial, Can - SMD; Impedance: -
footprint CAP ALUM 8.3MM
pins: 1, 2

## 35SVPF82M
designator C?, comment 82uF
CAP POLYMER 82UF 20% 35V SMD; Part Number: 35SVPF82M; Manufacturer: Panasonic Electronic Components; TemperatureRange: -55C ~ 105C; Ripple Current: 4A; Lifetime @ Temp: 5000 Hrs @ 105C; Value: 82uF; PartId: 7616; Supplier 1: Digi-Key; Supplier Part Number 1: P16562TR-ND; ComponentLink1Description: Datasheet; ComponentLink1URL: http://industrial.panasonic.com/www-cgi/jvcr13pz.cgi?E+CI+4+AAB8001+35SVPF82M+8+WW; ComponentLink2Description: Digi-Key listing; ComponentLink2URL: http://digikey.com/product-detail/en/35SVPF82M/P16562TR-ND/4204894; Tolerance: 20%; Voltage: 35V; Price: 1.1681; Type: -; Device Package: Radial, Can - SMD; Impedance: -
footprint CAP ALUM 8.3MM
pins: 1, 2

## 35SVPF120M
designator C?, comment 120uF
CAP POLYMER 120UF 20% 35V SMD; Part Number: 35SVPF120M; Manufacturer: Panasonic Electronic Components; TemperatureRange: -55C ~ 105C; Ripple Current: 4.4A; Lifetime @ Temp: 5000 Hrs @ 105C; Value: 120uF; PartId: 7700; Supplier 1: Digi-Key; Supplier Part Number 1: P16559TR-ND; ComponentLink1Description: Datasheet; ComponentLink1URL: http://industrial.panasonic.com/www-cgi/jvcr13pz.cgi?E+CI+4+AAB8001+35SVPF120M+8+WW; ComponentLink2Description: Digi-Key listing; ComponentLink2URL: http://digikey.com/product-detail/en/35SVPF120M/P16559TR-ND/4204891; Tolerance: 20%; Voltage: 35V; Price: 1.3249; Type: -; Device Package: Radial, Can - SMD; Impedance: -
footprint CAP ALUM 10.3MM
pins: 1, 2

## 50SVPF39M
designator C?, comment 39uF
CAP POLYMER 39UF 20% 50V SMD; Part Number: 50SVPF39M; Manufacturer: Panasonic Electronic Components; TemperatureRange: -55C ~ 105C; Ripple Current: 3.8A; Lifetime @ Temp: 5000 Hrs @ 105C; Value: 39uF; PartId: 7623; Supplier 1: Digi-Key; Supplier Part Number 1: P16593TR-ND; ComponentLink1Description: Datasheet; ComponentLink1URL: http://industrial.panasonic.com/www-cgi/jvcr13pz.cgi?E+CI+4+AAB8001+50SVPF39M+8+WW; ComponentLink2Description: Digi-Key listing; ComponentLink2URL: http://digikey.com/product-detail/en/50SVPF39M/P16593TR-ND/4204925; Tolerance: 20%; Voltage: 50V; Price: 1.3807; Type: -; Device Package: Radial, Can - SMD; Impedance: -
footprint CAP ALUM 8.3MM
pins: 1, 2

## 50SVPF68M
designator C?, comment 68uF
CAP POLYMER 68UF 20% 50V SMD; Part Number: 50SVPF68M; Manufacturer: Panasonic Electronic Components; TemperatureRange: -55C ~ 105C; Ripple Current: 4.3A; Lifetime @ Temp: 5000 Hrs @ 105C; Value: 68uF; PartId: 7722; Supplier 1: Digi-Key; Supplier Part Number 1: P16594TR-ND; ComponentLink1Description: Datasheet; ComponentLink1URL: http://industrial.panasonic.com/www-cgi/jvcr13pz.cgi?E+CI+4+AAB8001+50SVPF68M+8+WW; ComponentLink2Description: Digi-Key listing; ComponentLink2URL: http://digikey.com/product-detail/en/50SVPF68M/P16594TR-ND/4204926; Tolerance: 20%; Voltage: 50V; Price: 1.7328; Type: -; Device Package: Radial, Can - SMD; Impedance: -
footprint CAP ALUM 10.3MM
pins: 1, 2

## 94SVPD226X0035E12
designator C?, comment 22uF
CAP POLYMER 22UF 20% 35V SMD; Part Number: 94SVPD226X0035E12; Manufacturer: Vishay Sprague; TemperatureRange: -55C ~ 125C; Ripple Current: 700mA; Lifetime @ Temp: 2000 Hrs @ 125C; Value: 22uF; PartId: 7653; Supplier 1: Digi-Key; Supplier Part Number 1: 718-1877-2-ND; ComponentLink1Description: Datasheet; ComponentLink1URL: http://www.vishay.com/docs/90022/svpd.pdf; ComponentLink2Description: Digi-Key listing; ComponentLink2URL: http://digikey.com/product-detail/en/94SVPD226X0035E12/718-1877-2-ND/2643447; Tolerance: 20%; Voltage: 35V; Price: 4.9032; Type: -; Device Package: Radial, Can - SMD; Impedance: -
footprint CAP ALUM 8.3MM
pins: 1, 2

## 94SVPD476X0035F12
designator C?, comment 47uF
CAP POLYMER 47UF 20% 35V SMD; Part Number: 94SVPD476X0035F12; Manufacturer: Vishay Sprague; TemperatureRange: -55C ~ 125C; Ripple Current: 1.15A; Lifetime @ Temp: 2000 Hrs @ 125C; Value: 47uF; PartId: 7756; Supplier 1: Digi-Key; Supplier Part Number 1: 718-1878-2-ND; ComponentLink1Description: Datasheet; ComponentLink1URL: http://www.vishay.com/docs/90022/svpd.pdf; ComponentLink2Description: Digi-Key listing; ComponentLink2URL: http://digikey.com/product-detail/en/94SVPD476X0035F12/718-1878-2-ND/2643448; Tolerance: 20%; Voltage: 35V; Price: 6.0895; Type: -; Device Package: Radial, Can - SMD; Impedance: -
footprint CAP ALUM 10.3MM
pins: 1, 2

## 875075355001
designator C?, comment 180uF
CAP POLYMER 180UF 20% 16V SMD; Part Number: 875075355001; Manufacturer: Wurth Electronics Inc; TemperatureRange: -55C ~ 105C; Type: General Purpose; Ripple Current: 4.7A; Lifetime @ Temp: 2000 Hrs @ 105C; Value: 180uF; PartId: 7575; Supplier 1: Digi-Key; Supplier Part Number 1: 732-6488-2-ND; ComponentLink1Description: Datasheet; ComponentLink1URL: http://katalog.we-online.de/pbs/datasheet/875075355001.pdf; ComponentLink2Description: Digi-Key listing; ComponentLink2URL: http://digikey.com/product-detail/en/875075355001/732-6488-2-ND/5147652; Tolerance: 20%; Voltage: 16V; Price: 0.7659; Device Package: Radial, Can - SMD; Impedance: -
footprint CAP ALUM 8.3MM
pins: 1, 2

## 875075355002
designator C?, comment 220uF
CAP POLYMER 220UF 20% 16V SMD; Part Number: 875075355002; Manufacturer: Wurth Electronics Inc; TemperatureRange: -55C ~ 105C; Type: General Purpose; Ripple Current: 4.7A; Lifetime @ Temp: 2000 Hrs @ 105C; Value: 220uF; PartId: 7577; Supplier 1: Digi-Key; Supplier Part Number 1: 732-6489-2-ND; ComponentLink1Description: Datasheet; ComponentLink1URL: http://katalog.we-online.de/pbs/datasheet/875075355002.pdf; ComponentLink2Description: Digi-Key listing; ComponentLink2URL: http://digikey.com/product-detail/en/875075355002/732-6489-2-ND/5147653; Tolerance: 20%; Voltage: 16V; Price: 0.8075; Device Package: Radial, Can - SMD; Impedance: -
footprint CAP ALUM 8.3MM
pins: 1, 2

## 875075355003
designator C?, comment 270uF
CAP POLYMER 270UF 20% 16V SMD; Part Number: 875075355003; Manufacturer: Wurth Electronics Inc; TemperatureRange: -55C ~ 105C; Type: General Purpose; Ripple Current: 4.7A; Lifetime @ Temp: 2000 Hrs @ 105C; Value: 270uF; PartId: 7587; Supplier 1: Digi-Key; Supplier Part Number 1: 732-6490-2-ND; ComponentLink1Description: Datasheet; ComponentLink1URL: http://katalog.we-online.de/pbs/datasheet/875075355003.pdf; ComponentLink2Description: Digi-Key listing; ComponentLink2URL: http://digikey.com/product-detail/en/875075355003/732-6490-2-ND/5147654; Tolerance: 20%; Voltage: 16V; Price: 0.8936; Device Package: Radial, Can - SMD; Impedance: -
footprint CAP ALUM 8.3MM
pins: 1, 2

## 875075355004
designator C?, comment 330uF
CAP POLYMER 330UF 20% 16V SMD; Part Number: 875075355004; Manufacturer: Wurth Electronics Inc; TemperatureRange: -55C ~ 105C; Type: General Purpose; Ripple Current: 4.7A; Lifetime @ Temp: 2000 Hrs @ 105C; Value: 330uF; PartId: 7598; Supplier 1: Digi-Key; Supplier Part Number 1: 732-6491-2-ND; ComponentLink1Description: Datasheet; ComponentLink1URL: http://katalog.we-online.de/pbs/datasheet/875075355004.pdf; ComponentLink2Description: Digi-Key listing; ComponentLink2URL: http://digikey.com/product-detail/en/875075355004/732-6491-2-ND/5147655; Tolerance: 20%; Voltage: 16V; Price: 0.9696; Device Package: Radial, Can - SMD; Impedance: -
footprint CAP ALUM 8.3MM
pins: 1, 2

## 875075361005
designator C?, comment 470uF
CAP POLYMER 470UF 20% 16V SMD; Part Number: 875075361005; Manufacturer: Wurth Electronics Inc; TemperatureRange: -55C ~ 105C; Type: General Purpose; Ripple Current: 5.1A; Lifetime @ Temp: 2000 Hrs @ 105C; Value: 470uF; PartId: 7690; Supplier 1: Digi-Key; Supplier Part Number 1: 732-6492-2-ND; ComponentLink1Description: Datasheet; ComponentLink1URL: http://katalog.we-online.de/pbs/datasheet/875075361005.pdf; ComponentLink2Description: Digi-Key listing; ComponentLink2URL: http://digikey.com/product-detail/en/875075361005/732-6492-2-ND/5147656; Tolerance: 20%; Voltage: 16V; Price: 1.2536; Device Package: Radial, Can - SMD; Impedance: -
footprint CAP ALUM 10.3MM
pins: 1, 2

## 875075361006
designator C?, comment 680uF
CAP POLYMER 680UF 20% 16V SMD; Part Number: 875075361006; Manufacturer: Wurth Electronics Inc; TemperatureRange: -55C ~ 105C; Type: General Purpose; Ripple Current: 5.1A; Lifetime @ Temp: 2000 Hrs @ 105C; Value: 680uF; PartId: 7720; Supplier 1: Digi-Key; Supplier Part Number 1: 732-6493-2-ND; ComponentLink1Description: Datasheet; ComponentLink1URL: http://katalog.we-online.de/pbs/datasheet/875075361006.pdf; ComponentLink2Description: Digi-Key listing; ComponentLink2URL: http://digikey.com/product-detail/en/875075361006/732-6493-2-ND/5147657; Tolerance: 20%; Voltage: 16V; Price: 1.7011; Device Package: Radial, Can - SMD; Impedance: -
footprint CAP ALUM 10.3MM
pins: 1, 2

## 875075361007
designator C?, comment 820uF
CAP POLYMER 820UF 20% 16V SMD; Part Number: 875075361007; Manufacturer: Wurth Electronics Inc; TemperatureRange: -55C ~ 105C; Type: General Purpose; Ripple Current: 5.1A; Lifetime @ Temp: 2000 Hrs @ 105C; Value: 820uF; PartId: 7734; Supplier 1: Digi-Key; Supplier Part Number 1: 732-6494-2-ND; ComponentLink1Description: Datasheet; ComponentLink1URL: http://katalog.we-online.de/pbs/datasheet/875075361007.pdf; ComponentLink2Description: Digi-Key listing; ComponentLink2URL: http://digikey.com/product-detail/en/875075361007/732-6494-2-ND/5147658; Tolerance: 20%; Voltage: 16V; Price: 1.8804; Device Package: Radial, Can - SMD; Impedance: -
footprint CAP ALUM 10.3MM
pins: 1, 2

## 875075555001
designator C?, comment 39uF
CAP POLYMER 39UF 20% 25V SMD; Part Number: 875075555001; Manufacturer: Wurth Electronics Inc; TemperatureRange: -55C ~ 105C; Type: General Purpose; Ripple Current: 4.21A; Lifetime @ Temp: 2000 Hrs @ 105C; Value: 39uF; PartId: 7584; Supplier 1: Digi-Key; Supplier Part Number 1: 732-6495-2-ND; ComponentLink1Description: Datasheet; ComponentLink1URL: http://katalog.we-online.de/pbs/datasheet/875075555001.pdf; ComponentLink2Description: Digi-Key listing; ComponentLink2URL: http://digikey.com/product-detail/en/875075555001/732-6495-2-ND/5147659; Tolerance: 20%; Voltage: 25V; Price: 0.8663; Device Package: Radial, Can - SMD; Impedance: -
footprint CAP ALUM 8.3MM
pins: 1, 2

## 875075555002
designator C?, comment 47uF
CAP POLYMER 47UF 20% 25V SMD; Part Number: 875075555002; Manufacturer: Wurth Electronics Inc; TemperatureRange: -55C ~ 105C; Type: General Purpose; Ripple Current: 4.21A; Lifetime @ Temp: 2000 Hrs @ 105C; Value: 47uF; PartId: 7585; Supplier 1: Digi-Key; Supplier Part Number 1: 732-6496-2-ND; ComponentLink1Description: Datasheet; ComponentLink1URL: http://katalog.we-online.de/pbs/datasheet/875075555002.pdf; ComponentLink2Description: Digi-Key listing; ComponentLink2URL: http://digikey.com/product-detail/en/875075555002/732-6496-2-ND/5147660; Tolerance: 20%; Voltage: 25V; Price: 0.8764; Device Package: Radial, Can - SMD; Impedance: -
footprint CAP ALUM 8.3MM
pins: 1, 2

## 875075555003
designator C?, comment 68uF
CAP POLYMER 68UF 20% 25V SMD; Part Number: 875075555003; Manufacturer: Wurth Electronics Inc; TemperatureRange: -55C ~ 105C; Type: General Purpose; Ripple Current: 4.21A; Lifetime @ Temp: 2000 Hrs @ 105C; Value: 68uF; PartId: 7588; Supplier 1: Digi-Key; Supplier Part Number 1: 732-6497-2-ND; ComponentLink1Description: Datasheet; ComponentLink1URL: http://katalog.we-online.de/pbs/datasheet/875075555003.pdf; ComponentLink2Description: Digi-Key listing; ComponentLink2URL: http://digikey.com/product-detail/en/875075555003/732-6497-2-ND/5147661; Tolerance: 20%; Voltage: 25V; Price: 0.8936; Device Package: Radial, Can - SMD; Impedance: -
footprint CAP ALUM 8.3MM
pins: 1, 2

## 875075555004
designator C?, comment 82uF
CAP POLYMER 82UF 20% 25V SMD; Part Number: 875075555004; Manufacturer: Wurth Electronics Inc; TemperatureRange: -55C ~ 105C; Type: General Purpose; Ripple Current: 4.21A; Lifetime @ Temp: 2000 Hrs @ 105C; Value: 82uF; PartId: 7594; Supplier 1: Digi-Key; Supplier Part Number 1: 732-6498-2-ND; ComponentLink1Description: Datasheet; ComponentLink1URL: http://katalog.we-online.de/pbs/datasheet/875075555004.pdf; ComponentLink2Description: Digi-Key listing; ComponentLink2URL: http://digikey.com/product-detail/en/875075555004/732-6498-2-ND/5147662; Tolerance: 20%; Voltage: 25V; Price: 0.9208; Device Package: Radial, Can - SMD; Impedance: -
footprint CAP ALUM 8.3MM
pins: 1, 2

## 875075561005
designator C?, comment 100uF
CAP POLYMER 100UF 20% 25V SMD; Part Number: 875075561005; Manufacturer: Wurth Electronics Inc; TemperatureRange: -55C ~ 105C; Type: General Purpose; Ripple Current: 4.8A; Lifetime @ Temp: 2000 Hrs @ 105C; Value: 100uF; PartId: 7693; Supplier 1: Digi-Key; Supplier Part Number 1: 732-6499-2-ND; ComponentLink1Description: Datasheet; ComponentLink1URL: http://katalog.we-online.de/pbs/datasheet/875075561005.pdf; ComponentLink2Description: Digi-Key listing; ComponentLink2URL: http://digikey.com/product-detail/en/875075561005/732-6499-2-ND/5147663; Tolerance: 20%; Voltage: 25V; Price: 1.2751; Device Package: Radial, Can - SMD; Impedance: -
footprint CAP ALUM 10.3MM
pins: 1, 2

## 875075561006
designator C?, comment 150uF
CAP POLYMER 150UF 20% 25V SMD; Part Number: 875075561006; Manufacturer: Wurth Electronics Inc; TemperatureRange: -55C ~ 105C; Type: General Purpose; Ripple Current: 4.8A; Lifetime @ Temp: 2000 Hrs @ 105C; Value: 150uF; PartId: 7709; Supplier 1: Digi-Key; Supplier Part Number 1: 732-6500-2-ND; ComponentLink1Description: Datasheet; ComponentLink1URL: http://katalog.we-online.de/pbs/datasheet/875075561006.pdf; ComponentLink2Description: Digi-Key listing; ComponentLink2URL: http://digikey.com/product-detail/en/875075561006/732-6500-2-ND/5147664; Tolerance: 20%; Voltage: 25V; Price: 1.5075; Device Package: Radial, Can - SMD; Impedance: -
footprint CAP ALUM 10.3MM
pins: 1, 2

## 875075561007
designator C?, comment 180uF
CAP POLYMER 180UF 20% 25V SMD; Part Number: 875075561007; Manufacturer: Wurth Electronics Inc; TemperatureRange: -55C ~ 105C; Type: General Purpose; Ripple Current: 4.8A; Lifetime @ Temp: 2000 Hrs @ 105C; Value: 180uF; PartId: 7715; Supplier 1: Digi-Key; Supplier Part Number 1: 732-6501-2-ND; ComponentLink1Description: Datasheet; ComponentLink1URL: http://katalog.we-online.de/pbs/datasheet/875075561007.pdf; ComponentLink2Description: Digi-Key listing; ComponentLink2URL: http://digikey.com/product-detail/en/875075561007/732-6501-2-ND/5147665; Tolerance: 20%; Voltage: 25V; Price: 1.5892; Device Package: Radial, Can - SMD; Impedance: -
footprint CAP ALUM 10.3MM
pins: 1, 2

## 875075561008
designator C?, comment 220uF
CAP POLYMER 220UF 20% 25V SMD; Part Number: 875075561008; Manufacturer: Wurth Electronics Inc; TemperatureRange: -55C ~ 105C; Type: General Purpose; Ripple Current: 4.8A; Lifetime @ Temp: 2000 Hrs @ 105C; Value: 220uF; PartId: 7727; Supplier 1: Digi-Key; Supplier Part Number 1: 732-6502-2-ND; ComponentLink1Description: Datasheet; ComponentLink1URL: http://katalog.we-online.de/pbs/datasheet/875075561008.pdf; ComponentLink2Description: Digi-Key listing; ComponentLink2URL: http://digikey.com/product-detail/en/875075561008/732-6502-2-ND/5147666; Tolerance: 20%; Voltage: 25V; Price: 1.8044; Device Package: Radial, Can - SMD; Impedance: -
footprint CAP ALUM 10.3MM
pins: 1, 2

## 875075561009
designator C?, comment 270uF
CAP POLYMER 270UF 20% 25V SMD; Part Number: 875075561009; Manufacturer: Wurth Electronics Inc; TemperatureRange: -55C ~ 105C; Type: General Purpose; Ripple Current: 4.8A; Lifetime @ Temp: 2000 Hrs @ 105C; Value: 270uF; PartId: 7735; Supplier 1: Digi-Key; Supplier Part Number 1: 732-6503-2-ND; ComponentLink1Description: Datasheet; ComponentLink1URL: http://katalog.we-online.de/pbs/datasheet/875075561009.pdf; ComponentLink2Description: Digi-Key listing; ComponentLink2URL: http://digikey.com/product-detail/en/875075561009/732-6503-2-ND/5147667; Tolerance: 20%; Voltage: 25V; Price: 1.8804; Device Package: Radial, Can - SMD; Impedance: -
footprint CAP ALUM 10.3MM
pins: 1, 2

## 875105244011
designator C?, comment 150uF
CAP POLYMER 150UF 20% 10V SMD; Part Number: 875105244011; Manufacturer: Wurth Electronics Inc; TemperatureRange: -55C ~ 105C; Type: General Purpose; Ripple Current: 2.2A; Lifetime @ Temp: 2000 Hrs @ 105C; Value: 150uF; PartId: 7490; Supplier 1: Digi-Key; Supplier Part Number 1: 732-6411-2-ND; ComponentLink1Description: Datasheet; ComponentLink1URL: http://katalog.we-online.de/pbs/datasheet/875105244011.pdf; ComponentLink2Description: Digi-Key listing; ComponentLink2URL: http://digikey.com/product-detail/en/875105244011/732-6411-2-ND/5147575; Tolerance: 20%; Voltage: 10V; Price: 0.5078; Device Package: Radial, Can - SMD; Impedance: -
footprint CAP ALUM 6.6MM
pins: 1, 2

## 875105244012
designator C?, comment 180uF
CAP POLYMER 180UF 20% 10V SMD; Part Number: 875105244012; Manufacturer: Wurth Electronics Inc; TemperatureRange: -55C ~ 105C; Type: General Purpose; Ripple Current: 1.97A; Lifetime @ Temp: 2000 Hrs @ 105C; Value: 180uF; PartId: 7491; Supplier 1: Digi-Key; Supplier Part Number 1: 732-6412-2-ND; ComponentLink1Description: Datasheet; ComponentLink1URL: http://katalog.we-online.de/pbs/datasheet/875105244012.pdf; ComponentLink2Description: Digi-Key listing; ComponentLink2URL: http://digikey.com/product-detail/en/875105244012/732-6412-2-ND/5147576; Tolerance: 20%; Voltage: 10V; Price: 0.5278; Device Package: Radial, Can - SMD; Impedance: -
footprint CAP ALUM 6.6MM
pins: 1, 2

## 875105244013
designator C?, comment 220uF
CAP POLYMER 220UF 20% 10V SMD; Part Number: 875105244013; Manufacturer: Wurth Electronics Inc; TemperatureRange: -55C ~ 105C; Type: General Purpose; Ripple Current: 1.97A; Lifetime @ Temp: 2000 Hrs @ 105C; Value: 220uF; PartId: 7493; Supplier 1: Digi-Key; Supplier Part Number 1: 732-6413-2-ND; ComponentLink1Description: Datasheet; ComponentLink1URL: http://katalog.we-online.de/pbs/datasheet/875105244013.pdf; ComponentLink2Description: Digi-Key listing; ComponentLink2URL: http://digikey.com/product-detail/en/875105244013/732-6413-2-ND/5147577; Tolerance: 20%; Voltage: 10V; Price: 0.535; Device Package: Radial, Can - SMD; Impedance: -
footprint CAP ALUM 6.6MM
pins: 1, 2

## 875105245014
designator C?, comment 270uF
CAP POLYMER 270UF 20% 10V SMD; Part Number: 875105245014; Manufacturer: Wurth Electronics Inc; TemperatureRange: -55C ~ 105C; Type: General Purpose; Ripple Current: 2.69A; Lifetime @ Temp: 2000 Hrs @ 105C; Value: 270uF; PartId: 7496; Supplier 1: Digi-Key; Supplier Part Number 1: 732-6414-2-ND; ComponentLink1Description: Datasheet; ComponentLink1URL: http://katalog.we-online.de/pbs/datasheet/875105245014.pdf; ComponentLink2Description: Digi-Key listing; ComponentLink2URL: http://digikey.com/product-detail/en/875105245014/732-6414-2-ND/5147578; Tolerance: 20%; Voltage: 10V; Price: 0.5479; Device Package: Radial, Can - SMD; Impedance: -
footprint CAP ALUM 6.6MM
pins: 1, 2

## 875105245015
designator C?, comment 330uF
CAP POLYMER 330UF 20% 10V SMD; Part Number: 875105245015; Manufacturer: Wurth Electronics Inc; TemperatureRange: -55C ~ 105C; Type: General Purpose; Ripple Current: 2.69A; Lifetime @ Temp: 2000 Hrs @ 105C; Value: 330uF; PartId: 7498; Supplier 1: Digi-Key; Supplier Part Number 1: 732-6415-2-ND; ComponentLink1Description: Datasheet; ComponentLink1URL: http://katalog.we-online.de/pbs/datasheet/875105245015.pdf; ComponentLink2Description: Digi-Key listing; ComponentLink2URL: http://digikey.com/product-detail/en/875105245015/732-6415-2-ND/5147579; Tolerance: 20%; Voltage: 10V; Price: 0.5536; Device Package: Radial, Can - SMD; Impedance: -
footprint CAP ALUM 6.6MM
pins: 1, 2